# Altium footprint library RJ-45_BelFuse_L834-1G1T-S7_pcb.PcbLib: 1 footprints
Each footprint in its own frame and in the unit in brackets; x right, y up, seen from the top. Pads: shape width x height; smd on the part's side, far side on the other; paste and mask are expansions set on the pad; w line width, h text height; cw(c..) or ccw(c..) is an arc to the next point about the centre after c.
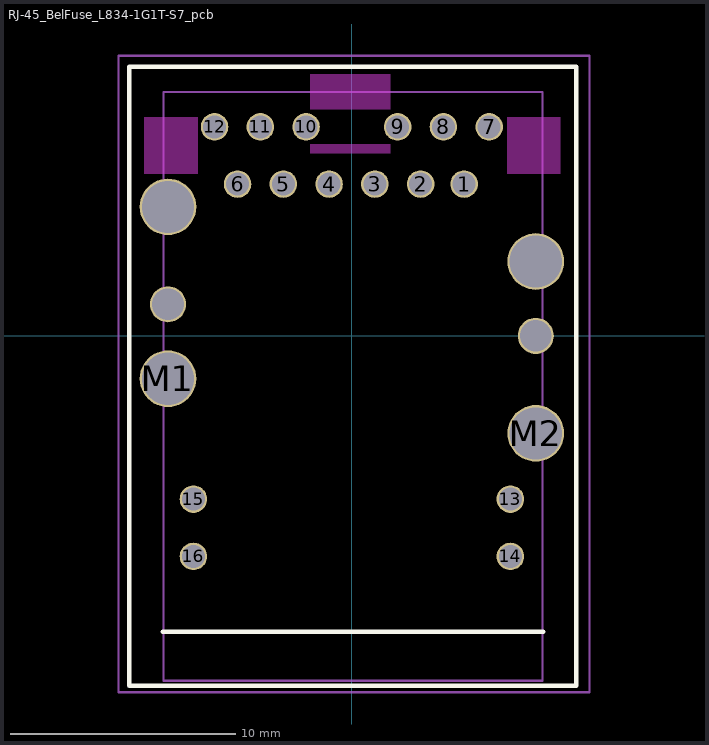
[diagram p0: the footprint, top view; thin cyan lines are the x and y axes]

## RJ-45_BelFuse_L834-1G1T-S7_pcb [mm]
height 11.38
pads (22):
  round 1.22 hole 1.02: 1(4.979,6.73) 2(3.049,6.73) 3(1.019,6.73) 4(-1.011,6.73) 5(-3.041,6.73) 6(-5.071,6.73) 7(6.09,9.27) 8(4.06,9.27) 9(2.03,9.27) 10(-2.03,9.27) 11(-4.06,9.27) 12(-6.09,9.27) 13(7.025,-7.24) 14(7.025,-9.78) 15(-7.025,-7.24) 16(-7.025,-9.78)
  round 2.51 hole 2.31: M1(-8.155,-1.9) M2(8.155,-4.32) ""(-8.155,5.72) ""(8.155,3.3)
  round 1.6 hole 1.4: ""(-8.155,1.4) ""(8.155,0)
Top Overlay:
  lines w0.2: -8.394,-13.11 8.49,-13.11 ; -9.866,-15.51 -9.866,11.936 9.958,11.936 9.958,-15.51 -9.866,-15.51
Keep-Out Layer:
  rectangle: -1.85,8.094 1.714,8.517
  rectangle: -1.85,10.038 1.704,11.604
  rectangle: -9.217,7.172 -6.832,9.712
  rectangle: 6.876,7.172 9.261,9.712
Mechanical 13:
  lines w0.1: -8.353,-15.288 -8.353,10.817 8.447,10.817 8.447,-15.288 -8.353,-15.288
Mechanical 15:
  lines w0.1: -10.349,-15.799 -10.349,12.418 10.537,12.418 10.537,-15.799 -10.349,-15.799
3D body: height 11.38, standoff 0, extent -8.407,-15.23 8.394,10.83